# Altium integrated library Detect_Switches_rev15a.intlib: 1 symbol
Pins are listed as number, name and electrical type; pins without a type are passive.

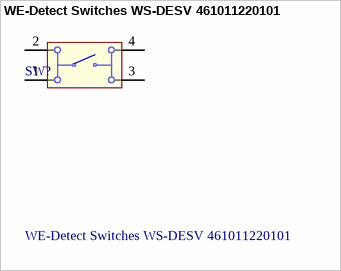
[diagram p0: symbol WE-Detect Switches WS-DESV 461011220101]

## WE-Detect Switches WS-DESV 461011220101
designator SW?
WS-DESV SMD Detect Switch 4.7*3.8mm; Manufacturer: W¨¹rth Elektronik eiSos GmbH & Co.KG; ComponentLink1 Description: Manufacturer; ComponentLink2 Description: Datasheet; Creat by: Karrer Zheng; NoPins: 04; Creat Date: 16 April 2014; partNo: 461011220101; ComponentLink1URL: http://www.we-online.com; ComponentLink2URL: http://katalog.we-online.de/em/datasheet/461011220101.pdf
footprint 461011220101 (4.7*3.8mm vertical type, SMD, right side operation,height 3.8mm, black actuator, 60gf, T&R)
pins: 1, 2, 3, 4